# Altium schematic symbol library VISHAY TSOP36X.SchLib: 1 symbol
Pins are listed as number, name and electrical type; pins without a type are passive.

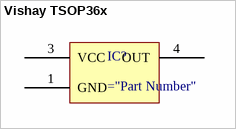
[diagram p0: symbol Vishay TSOP36x]

## Vishay TSOP36x
designator IC?
pins: 1 GND, 3 VCC, 4 OUT